# Altium schematic symbol library LM4992 IC SMD-DIP Adapter.SchLib: 1 symbol
Pins are listed as number, name and electrical type; pins without a type are passive.

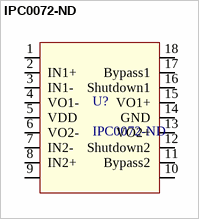
[diagram p0: symbol IPC0072-ND]

## IPC0072-ND
designator U?
DFN-14 TO DIP-18 SMT ADAPTER; Manufacturer: Chip Quik Inc.; Digikey Part #: IPC0072-ND; Manufacturer Part #: IPC0072
footprint DIP18
pins: 1, 2 IN1+, 3 IN1-, 4 VO1-, 5 VDD, 6 VO2-, 7 IN2-, 8 IN2+, 9, 10, 11 Bypass2, 12 Shutdown2, 13 VO2+, 14 GND, 15 VO1+, 16 Shutdown1, 17 Bypass1, 18